# Altium footprint library Senior-Design-Custom.PcbLib: 58 footprints (part 4 of 4)
Each footprint in its own frame and in the unit in brackets; x right, y up, seen from the top. Pads: shape width x height; smd on the part's side, far side on the other; paste and mask are expansions set on the pad; w line width, h text height; cw(c..) or ccw(c..) is an arc to the next point about the centre after c.
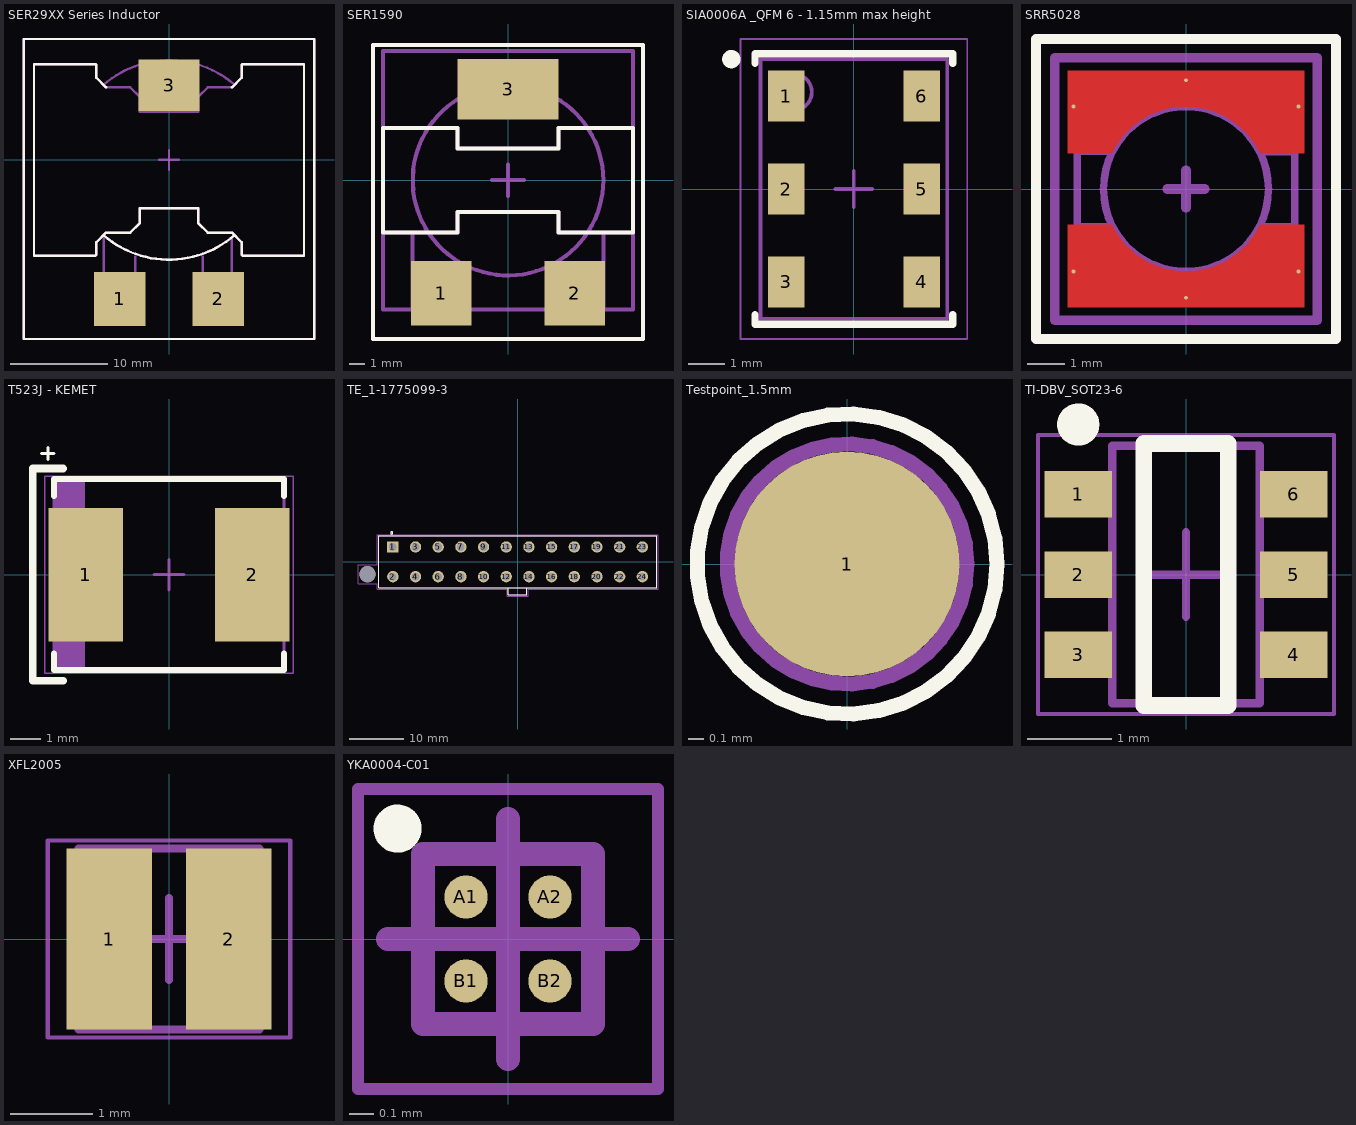
[diagram p3: the footprints below, top view; thin cyan lines are the x and y axes]

## SER29XX Series Inductor [mm] "SER29XX Series Inductor package by Coilcraft"
pads (3):
  rect 5.33x5.59 smd: 1(-5.075,-14.355) 2(5.075,-14.355)
  rect 6.35x5.28 smd: 3(0,7.72)
Top Overlay:
  lines w0.254: -6.751,-7.789 ccw(c0,0) 6.788,-7.757 ; -6.5,7.5 -7.5,8.5 -7.5,9.8 -7.6,9.9 -13.95,9.9 -13.95,-9.9 -7.6,-9.9 -7.5,-9.8 -7.5,-8.5 -6.5,-7.5 -4,-7.5 -3,-6.5 -3,-5 3,-5 3,-6.5 4,-7.5 6.5,-7.5 7.5,-8.5 7.5,-9.8 7.6,-9.9 13.95,-9.9 13.95,9.9 7.6,9.9 7.5,9.8 7.5,8.5 6.5,7.5 ; -15,-18.5 -15,-17.5 -15,12.5 15,12.5 15,-18.5 -15,-18.5
Mechanical 13:
  lines w0.254: -6.788,7.757 cw(c0,0) 6.751,7.789 ; -3.5,-10 -3.5,-13.5 -6.502,-13.5 -6.751,-13.251 -6.751,-7.789 ccw(c0,0) 6.788,-7.757 ; 3.5,-10 3.5,-13.5 6.5,-13.5 6.5,-8 ; -13.95,-9.9 -13.95,9.9 -7.6,9.9 -7.5,9.8 -7.5,8.5 -6.5,7.5 -4,7.5 -3,6.5 -3,5 3,5 3,6.5 4,7.5 6.5,7.5 7.5,8.5 7.5,9.8 7.6,9.9 13.95,9.9 13.95,-9.9 7.6,-9.9 7.5,-9.8 7.5,-8.5 6.5,-7.5 4,-7.5 3,-6.5 3,-5 -3,-5 -3,-6.5 -4,-7.5 -6.5,-7.5 -7.5,-8.5 -7.5,-9.8 -7.6,-9.9 -13.95,-9.9
Mechanical 15:
  lines w0.254: -1,0 1,0 ; 0,-1 0,1 ; -15,-18.5 15,-18.5 15,12.5 -15,12.5 -15,-17.5 -15,-18.5
3D body "Coilcraft-SER2915L.step": height 15.3, standoff -0.06, extent -14,-15.541 13.902,11.5

## SER1590 [mm] "Another giant inductor by Coilcraft"
height 10.16
pads (3):
  rect 3.81x4.06 smd: 1(-4.19,-7.11) 2(4.19,-7.11)
  rect 6.35x3.81 smd: 3(0,5.715)
Top Overlay:
  lines w0.254: -7.875,-3.3 -7.875,3.3 -3.175,3.3 -3.175,2 3.175,2 3.175,3.3 7.85,3.3 ; -7.85,-3.3 -3.175,-3.3 -3.175,-2 3.175,-2 3.175,-3.3 7.875,-3.3 7.875,3.3 ; -8.5,-10 -8.5,8.5 8.5,8.5 8.5,-10 -8.5,-10
Mechanical 13:
  circle w0.254: c0,0 r6
  lines w0.254: -7.875,-3.3 -7.875,3.3 -3.175,3.3 -3.175,2 3.175,2 3.175,3.3 7.85,3.3 ; -7.85,-3.3 -3.175,-3.3 -3.175,-2 3.175,-2 3.175,-3.3 7.875,-3.3 7.875,3.3 ; -6,-3.3 -6,-8.13 -2.5,-8.13 -2.5,-5.5 ; -2.5,5.5 cw(c0,4.167) 2.5,5.5 ; 2.5,-5.5 2.5,-8.13 6,-8.13 6,-3.3
Mechanical 15:
  lines w0.254: -1,0 1,0 ; 0,-1 0,1 ; -7.875,-8.13 -7.875,8.13 7.875,8.13 7.875,-8.13 -7.875,-8.13
3D body "Coilcraft-SER1590.step": height 9.91, standoff -0.25, extent -7.875,-8.51 7.875,7.75
3D body: height 11, standoff -4.4, extent 0,0 0,0

## SIA0006A _QFM 6 - 1.15mm max height [mm] "QFN, 6-Leads, Body 5.00x7.00mm, Pitch 2.54mm, IPC Medium Density"
height 1.15
pads (6):
  rect 1x1.4 smd mask+0.07: 1(-1.85,2.54) 2(-1.85,0) 3(-1.85,-2.54) 4(1.85,-2.54) 5(1.85,0) 6(1.85,2.54)
Top Overlay:
  circle w0.25: c-3.35,3.55 r0.125
  lines w0.2: -2.7,-3.44 -2.7,-3.7 0.37,-3.7 ; -2.7,3.44 -2.7,3.7 0.37,3.7 ; -0.37,-3.7 2.7,-3.7 2.7,-3.44 ; -0.37,3.7 2.7,3.7 2.7,3.44
Mechanical 13:
  circle w0.1: c-1.65,2.65 r0.5
  lines w0.1: -2.55,-3.55 -2.55,3.55 2.55,3.55 2.55,-3.55 -2.55,-3.55
Mechanical 15:
  lines w0.05: -3.1,-4.1 -3.1,4.1 3.1,4.1 3.1,-4.1 -3.1,-4.1
  lines w0.1: -0.5,0 0.5,0 ; 0,-0.5 0,0.5
3D body: height 1.15, standoff 0, extent -2.55,-3.55 2.55,3.55

## SRR5028 [mm] "SRR5028 series inductor"
height 3
pads (6):
  round 0.1 smd paste+0 mask+0: 1(-3,-2.2) 1(0,-2.9) 1(3,-2.2) 2(-3,2.2) 2(0,2.9) 2(3,2.2)
Top Layer:
  region: 3.15,3.15 3.15,0.95 1.984,0.95 1.887,1.131 1.643,1.463 1.342,1.744 0.993,1.963 0.61,2.114 0.206,2.19 -0.206,2.19 -0.61,2.114 -0.993,1.963 -1.342,1.744 -1.643,1.463 -1.887,1.131 -1.984,0.95 -3.15,0.95 -3.15,3.15
  region: -3.15,-3.15 -3.15,-0.95 -1.984,-0.95 -1.887,-1.131 -1.643,-1.463 -1.342,-1.744 -0.993,-1.963 -0.61,-2.114 -0.206,-2.19 0.206,-2.19 0.61,-2.114 0.993,-1.963 1.342,-1.744 1.643,-1.463 1.887,-1.131 1.984,-0.95 3.15,-0.95 3.15,-3.15
Top Overlay:
  lines w0.254: -4,-4 4,-4 4,4 -4,4 -4,3.5 -4,-4
Mechanical 13:
  circle w0.2: c0,0 r2.2
  lines w0.1: -2.85,-0.95 -1.984,-0.95 ; -2.85,0.95 -1.984,0.95 ; 1.984,0.95 2.85,0.95 ; 2,-0.95 2.85,-0.95
  lines w0.2: -2.9,-2.9 2.9,-2.9 2.9,2.9 -2.9,2.9 -2.9,-2.9
Mechanical 15:
  lines w0.254: -0.5,0 0.5,0 ; 0,-0.5 0,0.5 ; -3.5,-3.5 -3.5,3.5 3.5,3.5 3.5,-3.5 -3.5,-3.5

## T523J - KEMET [mm] "KEMET high density T523J tantalum capacitor"
height 1.5
pads (2):
  rect 2.45x4.4 smd: 1(-2.75,0) 2(2.75,0)
Top Overlay:
  lines w0.1: -4.2,4 -3.8,4 ; -4,3.8 -4,4.2
  lines w0.2: -3.8,-2.6 -3.8,-3.15 3.8,-3.15 3.8,-2.6 ; -3.8,2.6 -3.8,3.15 3.8,3.15 3.8,2.6
  lines w0.254: -3.5,-3.5 -4.5,-3.5 -4.5,3.5 -3.5,3.5
Mechanical 13:
  rectangle: -3.8,-3.15 -2.778,3.15
  lines w0.1: -3.8,-3.15 -3.8,3.15 3.8,3.15 3.8,-3.15 -3.8,-3.15
Mechanical 15:
  lines w0.05: -4.1,-3.25 -4.1,3.25 4.1,3.25 4.1,-3.25 -4.1,-3.25
  lines w0.1: -0.5,0 0.5,0 ; 0,-0.5 0,0.5
3D body "T523J687M006APE070.step": height 1.51, standoff -0.01, extent -3.805,-3.05 3.805,3.25

## TE_1-1775099-3 [mm]
pads (25):
  rect 2.1x2.1 hole 1.4: 1(-23.1,2.75)
  round 2.1 hole 1.4: 2(-23.1,-2.75) 3(-18.9,2.75) 4(-18.9,-2.75) 5(-14.7,2.75) 6(-14.7,-2.75) 7(-10.5,2.75) 8(-10.5,-2.75) 9(-6.3,2.75) 10(-6.3,-2.75) 11(-2.1,2.75) 12(-2.1,-2.75) 13(2.1,2.75) 14(2.1,-2.75) 15(6.3,2.75) 16(6.3,-2.75) 17(10.5,2.75) 18(10.5,-2.75) 19(14.7,2.75) 20(14.7,-2.75) 21(18.9,2.75) 22(18.9,-2.75) 23(23.1,2.75) 24(23.1,-2.75)
  round 3 hole 3 unplated: None(-27.8,-2.29)
Top Overlay:
  circle w0.203: c-23.3,5.35 r0.2
  lines w0.127: -1.7,-4.8 1.7,-4.8 ; -1.7,-4.8 -25.75,-4.8 -25.75,4.8 25.75,4.8 25.75,-4.8 1.7,-4.8 ; -1.7,-4.8 -1.7,-6.1 1.7,-6.1 1.7,-4.8
Mechanical 1:
  circle w0.203: c-23.3,5.35 r0.2
  lines w0.05: -29.55,-4.04 -29.55,-0.54 -26,-0.54 -26,5.05 26,5.05 26,-5.05 1.95,-5.05 1.95,-6.35 -1.95,-6.35 -1.95,-5.05 -26,-5.05 -26,-4.04 -29.55,-4.04
  lines w0.127: -1.7,-4.8 -25.75,-4.8 -25.75,4.8 25.75,4.8 25.75,-4.8 1.7,-4.8 ; -1.7,-4.8 1.7,-4.8 ; -1.7,-4.8 -1.7,-6.1 1.7,-6.1 1.7,-4.8
3D body "c-1-1775099-3-e-3d.stp": height 12.8, standoff -3.2, extent -28.8,-6.1 25.75,4.8

## Testpoint_1.5mm [mm]
pads (1):
  round 1.5 smd: 1(0,0)
Top Overlay:
  circle w0.1: c0,0 r1
Mechanical 15:
  circle w0.1: c0,0 r0.8

## TI-DBV_SOT23-6 [mm] "SOT23, 6-Leads, Body 2.90x2.80mm, Pitch 0.95mm, IPC High Density"
height 1.45
pads (6):
  rect 0.8x0.55 smd: 1(-1.275,0.95) 2(-1.275,0) 3(-1.275,-0.95) 4(1.275,-0.95) 5(1.275,0) 6(1.275,0.95)
Top Overlay:
  circle w0.25: c-1.275,1.775 r0.125
  lines w0.2: -0.5,-1.55 0.5,-1.55 0.5,1.55 -0.5,1.55 -0.5,-1.55
Mechanical 13:
  lines w0.1: -0.875,-1.525 -0.875,1.525 0.875,1.525 0.875,-1.525 -0.875,-1.525
Mechanical 15:
  lines w0.05: -1.75,-1.65 -1.75,1.65 1.75,1.65 1.75,-1.65 -1.75,-1.65
  lines w0.1: -0.5,0 0.5,0 ; 0,-0.5 0,0.5
3D body: height 1.45, standoff 0, extent -0.875,-1.525 0.875,1.525

## XFL2005 [mm] "XFL2005 series inductors by coilcraft"
height 0.5
pads (2):
  rect 1.04x2.2 smd: 1(-0.725,0) 2(0.725,0)
Mechanical 13:
  lines w0.1: -1.1,-1.1 -1.1,1.1 1.1,1.1 1.1,-1.1 -1.1,-1.1
Mechanical 15:
  lines w0.05: -1.475,-1.2 -1.475,1.2 1.475,1.2 1.475,-1.2 -1.475,-1.2
  lines w0.1: -0.5,0 0.5,0 ; 0,-0.5 0,0.5
3D body: height 0.5, standoff 0, extent -1.1,-1.1 1.1,1.1

## YKA0004-C01 [mm] "Texas Instruments DSBGA-4 0.44mm max height"
height 0.44
pads (4):
  round 0.18 smd mask+0.075: A1(-0.175,0.175) A2(0.175,0.175) B1(-0.175,-0.175) B2(0.175,-0.175)
Top Overlay:
  circle w0.1: c-0.46,0.46 r0.05
Mechanical 13:
  lines w0.1: -0.355,-0.355 -0.355,0.355 0.355,0.355 0.355,-0.355 -0.355,-0.355
Mechanical 15:
  lines w0.05: -0.625,-0.625 -0.625,0.625 0.625,0.625 0.625,-0.625 -0.625,-0.625
  lines w0.1: -0.5,0 0.5,0 ; 0,-0.5 0,0.5
3D body "YKA0004-C01.step": height 0.44, standoff 0, extent -0.355,-0.355 0.355,0.355